# EAGLE library part PCM1808 (library SureDSP)
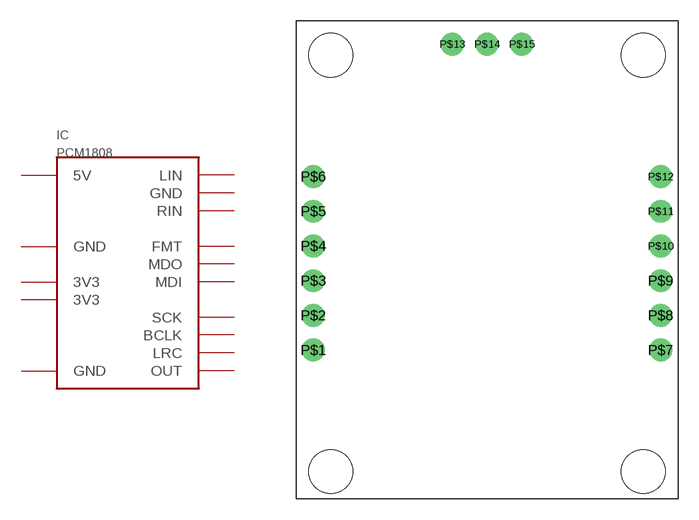
[diagram p7: symbol with the pads of PCM1808; footprint PCM1808]

Designator prefix IC

## PCM1808  [PCM1808]
P$1  5V
P$2  3V3
P$3  GND
P$4  MDO
P$5  MDI
P$6  FMT
P$7  3V3
P$8  GND
P$9  SCK
P$10  LRC
P$11  OUT
P$12  BCLK
P$13  RIN
P$14  GND
P$15  LIN

## Footprint PCM1808 (pad centres in mm)
drill 1 pad 1.676: P$1 0,0; P$2 0,2.54; P$3 0,5.08; P$4 0,7.62; P$5 0,10.16; P$6 0,12.7; P$7 25.4,0; P$8 25.4,2.54; P$9 25.4,5.08; P$10 25.4,7.62; P$11 25.4,10.16; P$12 25.4,12.7; P$13 10.16,22.4; P$14 12.7,22.4; P$15 15.24,22.4
hole 3.2 at 1.27,21.59
hole 3.2 at 24.13,21.59
hole 3.2 at 24.13,-8.89
hole 3.2 at 1.27,-8.89